# Altium footprint library Mark.PcbLib: 15 footprints
Each footprint in its own frame and in the unit in brackets; x right, y up, seen from the top. Pads: shape width x height; smd on the part's side, far side on the other; paste and mask are expansions set on the pad; w line width, h text height; cw(c..) or ccw(c..) is an arc to the next point about the centre after c.
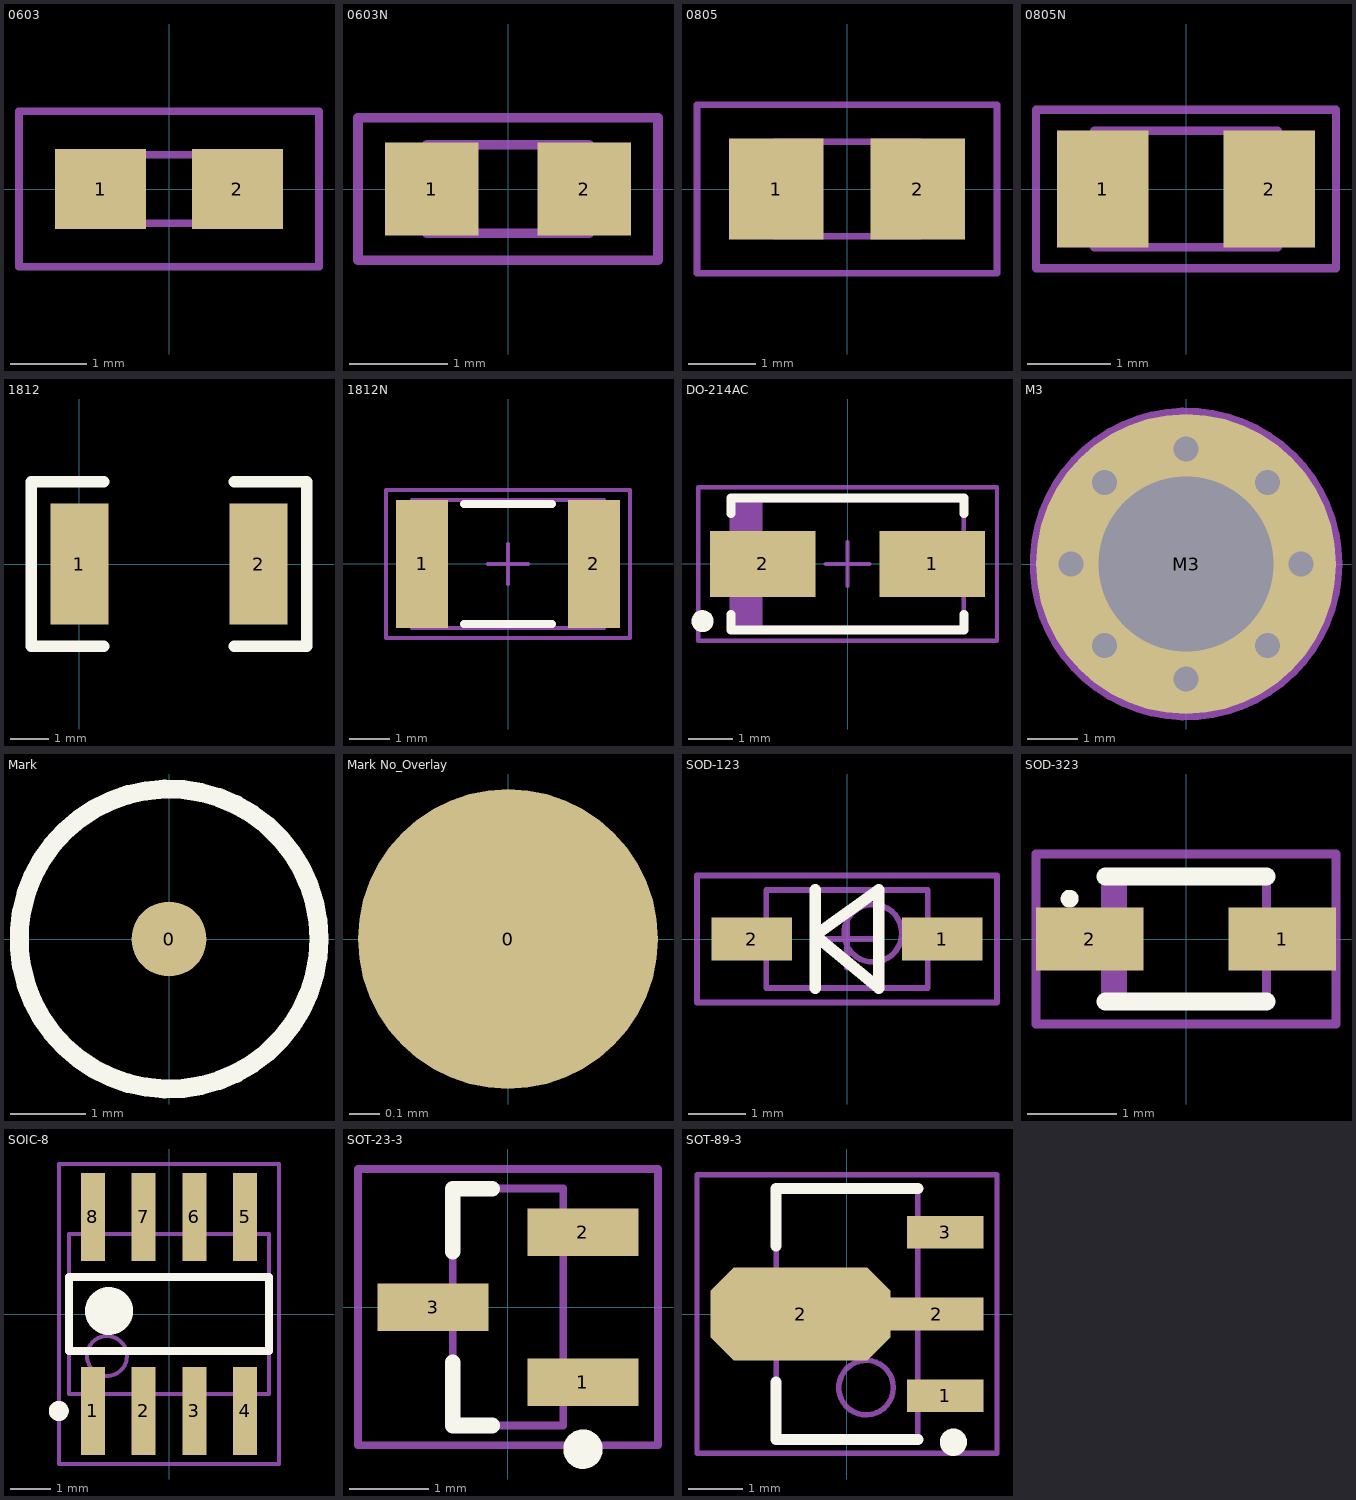
[diagram p0: the footprints below, top view; thin cyan lines are the x and y axes]

## 0603 [mm] "Chip Resistor, 2-Leads, Body 1.6x0.8mm, IPC Low Density"
height 0.6
pads (2):
  rect 1.2x1.05 smd: 1(-0.9,0) 2(0.9,0)
Mechanical 13:
  lines w0.1: -0.825,-0.45 -0.825,0.45 0.825,0.45 0.825,-0.45 -0.825,-0.45
Mechanical 15:
  lines w0.1: -1.975,-1.025 -1.975,1.025 1.975,1.025 1.975,-1.025 -1.975,-1.025
3D body: height 0.6, standoff 0, extent -0.825,-0.45 0.825,0.45

## 0603N [mm]
height 0.6
pads (2):
  rect 0.95x0.95 smd: 1(-0.775,0) 2(0.775,0)
Mechanical 13:
  lines w0.1: -0.825,-0.45 0.825,-0.45 0.825,0.45 -0.825,0.45 -0.825,-0.45
Mechanical 15:
  lines w0.1: -1.525,-0.725 1.525,-0.725 1.525,0.725 -1.525,0.725 -1.525,-0.725
3D body: height 0.6, standoff 0, extent -0.825,-0.45 0.825,0.45

## 0805 [mm] "Chip Resistor, 2-Leads, Body 2.0x1.3mm, IPC Low Density"
height 0.6
pads (2):
  rect 1.4x1.5 smd: 1(-1.05,0) 2(1.05,0)
Mechanical 13:
  lines w0.1: -1.075,-0.7 -1.075,0.7 1.075,0.7 1.075,-0.7 -1.075,-0.7
Mechanical 15:
  lines w0.1: -2.225,-1.25 -2.225,1.25 2.225,1.25 2.225,-1.25 -2.225,-1.25
3D body: height 0.6, standoff 0, extent -1.075,-0.7 1.075,0.7

## 0805N [mm] "Chip Resistor, 2-Leads, Body 2.0x1.3mm, IPC Medium Density"
height 0.6
pads (2):
  rect 1.1x1.4 smd: 1(-1,0) 2(1,0)
Mechanical 13:
  lines w0.1: -1.1,-0.7 -1.1,0.7 1.1,0.7 1.1,-0.7 -1.1,-0.7
Mechanical 15:
  lines w0.1: -1.8,-0.95 -1.8,0.95 1.8,0.95 1.8,-0.95 -1.8,-0.95
3D body: height 0.6, standoff 0, extent -1.1,-0.7 1.1,0.7

## 1812 [mil]
pads (2):
  rect 60x125 smd: 1(0,0) 2(185,0)
Top Overlay:
  lines w12: 25,-85 -50,-85 -50,85 25,85 ; 160,-85 235,-85 235,85 160,85

## 1812N [mm] "Chip Capacitor, 2-Leads, Body 4.6x3.1mm, IPC Medium Density"
height 0.6
pads (2):
  rect 1.3x3.2 smd: 1(-2.15,0) 2(2.15,0)
Top Overlay:
  lines w0.2: -1.1,-1.5 1.1,-1.5 ; -1.1,1.5 1.1,1.5
Mechanical 13:
  lines w0.1: -2.4,-1.6 2.4,-1.6 2.4,1.6 -2.4,1.6 -2.4,-1.6
Mechanical 15:
  lines w0.1: -0.5,0 0.5,0 ; 0,-0.5 0,0.5 ; -3.05,-1.85 3.05,-1.85 3.05,1.85 -3.05,1.85 -3.05,-1.85
3D body: height 0.6, standoff 0, extent -2.4,-1.6 2.4,1.6

## DO-214AC [mm] "Molded Diode, 2-Leads, Body 5.0x2.7mm, IPC Medium Density"
height 2.44
pads (2):
  rect 2.4x1.5 smd: 1(1.925,0) 2(-1.925,0)
Top Overlay:
  circle w0.25: c-3.3,-1.3 r0.125
  lines w0.2: -2.65,-1.15 -2.65,-1.5 2.65,-1.5 2.65,-1.15 ; -2.65,1.15 -2.65,1.5 2.65,1.5 2.65,1.15
Mechanical 13:
  region: -1.93,1.45 -2.64,1.45 -2.64,-1.45 -1.93,-1.45
  lines w0.1: -2.64,-1.45 -2.64,1.45 2.64,1.45 2.64,-1.45 -2.64,-1.45
Mechanical 15:
  lines w0.1: -0.5,0 0.5,0 ; 0,-0.5 0,0.5 ; -3.4,-1.75 -3.4,1.75 3.4,1.75 3.4,-1.75 -3.4,-1.75
3D body: height 2.44, standoff 0, extent -2.64,-1.45 2.64,1.45

## M3 [mm] "M3螺钉孔"
pads (1):
  round 6 hole 3.5: M3(0,0)
via -1.63,1.63 diameter 1 hole 0.5
via 1.63,-1.63 diameter 1 hole 0.5
via -1.63,-1.63 diameter 1 hole 0.5
via 1.63,1.63 diameter 1 hole 0.5
via 0,-2.3 diameter 1 hole 0.5
via 0,2.3 diameter 1 hole 0.5
via -2.3,0 diameter 1 hole 0.5
via 2.3,0 diameter 1 hole 0.5
Mechanical 15:
  circle w0.254: c0,0 r3

## Mark [mm] "1mm_Mark"
pads (1):
  round 1 smd mask+1: 0(0,0)
Top Overlay:
  circle w0.254: c0,0 r2

## Mark No_Overlay [mm] "1mm_Mark No Overlay"
pads (1):
  round 1 smd mask+1.5: 0(0,0)

## SOD-123 [mm] "SOD-123, 2-Leads, Body 1.7x2.8mm (max), Pitch 1.27mm, IPC Medium Density"
height 1.25
pads (2):
  rect 1.4x0.75 smd: 1(1.65,0) 2(-1.65,0)
Top Overlay:
  lines w0.2: -0.55,-0.85 -0.55,0.85 ; -0.55,0.061 0.55,-0.85 0.55,0.85 -0.55,0.061
Mechanical 13:
  circle w0.1: c0.45,0.1 r0.5
  lines w0.1: -1.4,-0.85 1.4,-0.85 1.4,0.85 -1.4,0.85 -1.4,-0.85
Mechanical 15:
  lines w0.1: -0.5,0 0.5,0 ; 0,-0.5 0,0.5 ; -2.6,-1.1 2.6,-1.1 2.6,1.1 -2.6,1.1 -2.6,-1.1
3D body: height 1.25, standoff 0.08, extent -1.4,-0.85 1.4,0.85

## SOD-323 [mm] "Molded Diode, 2-Leads, Body 1.7x1.3mm, IPC Medium Density"
height 0.9
pads (2):
  rect 1.2x0.7 smd: 1(1.075,0) 2(-1.075,0)
Top Overlay:
  circle w0.1: c-1.3,0.45 r0.05
  lines w0.2: -0.9,-0.7 0.9,-0.7 ; -0.9,0.7 0.9,0.7
Mechanical 13:
  rectangle: -0.9,-0.7 -0.658,0.7
  lines w0.1: -0.9,-0.7 0.9,-0.7 0.9,0.7 -0.9,0.7 -0.9,-0.7
Mechanical 15:
  lines w0.1: -1.675,-0.95 1.675,-0.95 1.675,0.95 -1.675,0.95 -1.675,-0.95
3D body: height 0.9, standoff 0, extent -0.9,-0.7 0.9,0.7

## SOIC-8 [mm] "R-8"
height 1.75
pads (8):
  rect 0.6x2.2 smd: 1(-1.905,-2.425) 2(-0.635,-2.425) 3(0.635,-2.425) 4(1.905,-2.425) 5(1.905,2.425) 6(0.635,2.425) 7(-0.635,2.425) 8(-1.905,2.425)
Top Overlay:
  circle w0.25: c-2.755,-2.425 r0.125
  circle w0.6: c-1.5,0.075 r0.3
  lines w0.2: -2.5,-0.925 2.5,-0.925 2.5,0.925 -2.5,0.925 -2.5,-0.925
Mechanical 13:
  circle w0.1: c-1.55,-1.05 r0.5
  lines w0.1: -2.5,-2 2.5,-2 2.5,2 -2.5,2 -2.5,-2
Mechanical 15:
  lines w0.1: -2.75,-3.75 2.75,-3.75 2.75,3.75 -2.75,3.75 -2.75,-3.75
3D body: height 1.75, standoff 0.05, extent -2.5,-2 2.5,2

## SOT-23-3 [mm] "SOT23, 3-Leads, Body 3.0x2.5mm (max), Pitch 0.95mm, IPC Medium Density"
height 1.1
pads (3):
  rect 1.4x0.6 smd: 1(0.95,-0.95) 2(0.95,0.95) 3(-0.95,0)
Top Overlay:
  circle w0.25: c0.95,-1.8 r0.125
  lines w0.2: -0.7,-0.7 -0.7,-1.5 -0.2,-1.5 ; -0.7,0.7 -0.7,1.5 -0.2,1.5
Mechanical 13:
  lines w0.1: -0.7,-1.5 -0.7,1.5 0.7,1.5 0.7,-1.5 -0.7,-1.5
Mechanical 15:
  lines w0.1: -1.9,-1.75 -1.9,1.75 1.9,1.75 1.9,-1.75 -1.9,-1.75
3D body: height 1.1, standoff 0.1, extent -0.7,-1.5 0.7,1.5

## SOT-89-3 [mm] "SOT89, 3-Leads, Body 4.5x2.4mm (max), Pitch 1.50mm, Lead Span 4.1mm, IPC Medium Density"
height 1.6
pads (4):
  rect 1.4x0.6 smd: 1(1.8,-1.5) 3(1.8,1.5)
  oct 3.3x1.7 smd: 2(-0.85,0)
  rect 1.7x0.6 smd: 2(1.65,0)
Top Overlay:
  circle w0.25: c1.95,-2.35 r0.125
  lines w0.2: -1.3,-1.25 -1.3,-2.3 1.3,-2.3 ; -1.3,1.25 -1.3,2.3 1.3,2.3
Mechanical 13:
  circle w0.1: c0.35,-1.35 r0.5
  lines w0.1: -1.3,-2.3 1.3,-2.3 1.3,2.3 -1.3,2.3 -1.3,-2.3
Mechanical 15:
  lines w0.1: -0.5,0 0.5,0 ; 0,-0.5 0,0.5 ; -2.75,-2.55 2.75,-2.55 2.75,2.55 -2.75,2.55 -2.75,-2.55
3D body: height 1.6, standoff 0, extent -1.3,-2.3 1.3,2.3